# EAGLE library part TA147FD (library SeniorDesign)
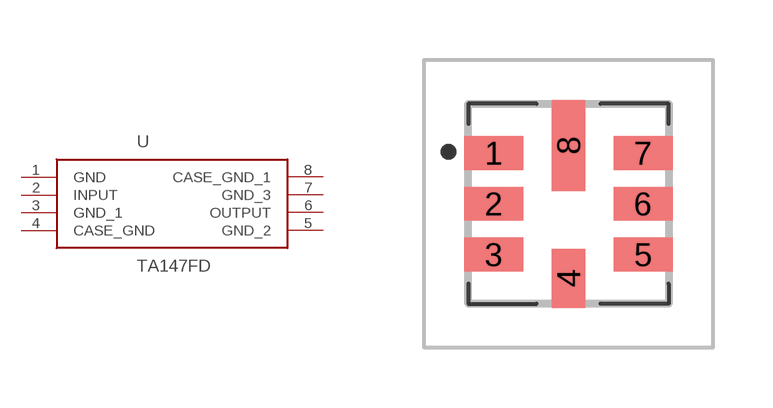
[diagram p2: symbol with the pads of TA147FD; footprint TA147FD]

Designator prefix -

## TA147FD  [TA147FD]
1  GND
2  INPUT
3  GND_1
4  CASE_GND
5  GND_2
6  OUTPUT
7  GND_3
8  CASE_GND_1

## Footprint TA147FD (pad centres in mm)
TA0576A-2
smd 1.47 x 0.84: 1 -1.865,1.27; 2 -1.865,0; 3 -1.865,-1.27; 5 1.865,-1.27; 6 1.865,0; 7 1.865,1.27
smd 0.84 x 1.47: 4 0,-1.865
smd 0.84 x 2.28: 8 0,1.46